# Altium integrated library 1-641966-1.IntLib: 1 symbol
Pins are listed as number, name and electrical type; pins without a type are passive.

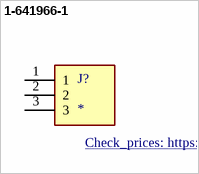
[diagram p0: symbol 1-641966-1]

## 1-641966-1
designator J?
03P UMNL PIN HDR ASSY BLK; Product_Type: Header; Number_of_Positions: 3; MP: 1-641966-1; MF: TE Connectivity; Centerline_Pitch: 6.35 mm[.25 in]; Package: None; DigiKey-Purchase-URL: https://snapeda.com/shop?store=DigiKey&id=474367; Value: *; Mouser-Purchase-URL: https://snapeda.com/shop?store=Mouser&id=474367; EU_RoHS_Compliance: Compliant; Digi-Key_Part_Number: A25285-ND; SnapEDA_Link: https://www.snapeda.com/parts/1-641966-1/TE%20Connectivity%20AMP%20Connectors/view-part/474367/?ref=snap; Check_prices: https://www.snapeda.com/parts/1-641966-1/TE%20Connectivity%20AMP%20Connectors/view-part/474367/?ref=eda
footprint TE_1-641966-1
pins: 1, 2, 3